# EAGLE library part MCP6054 (library Projekt)
Operationsverstärker Microchip MCP 6052
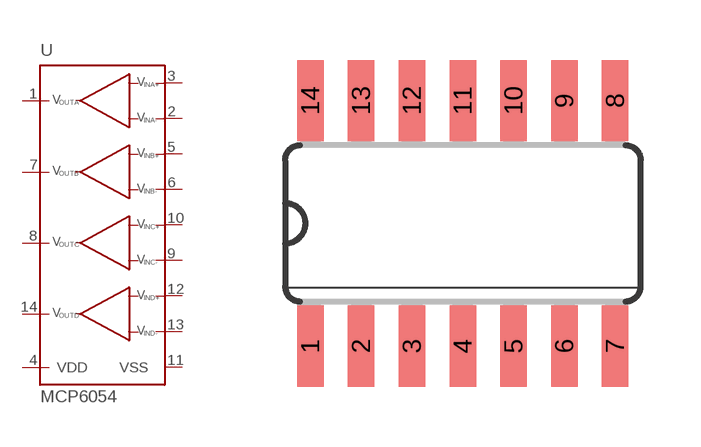
[diagram p23: symbol with the pads of SO14; footprint SO14]

Designator prefix -

## MCP6054SOIC14  [SO14]
1  VOUTA  out
2  VINA-  in
3  VINA+  in
4  VDD  pwr
5  VINB+  in
6  VINB-  in
7  VOUTB  out
8  VOUTC  out
9  VINC-  in
10  VINC+  in
11  VSS  pwr
12  VIND+  in
13  VIND-  in
14  VOUTD  out

## Footprint SO14 (pad centres in mm)
Small Outline package 150 mil
smd 0.66 x 2.032: 1 -3.81,-3.073; 2 -2.54,-3.073; 3 -1.27,-3.073; 4 0,-3.073; 5 1.27,-3.073; 6 2.54,-3.073; 7 3.81,-3.073; 8 3.81,3.073; 9 2.54,3.073; 10 1.27,3.073; 11 0,3.073; 12 -1.27,3.073; 13 -2.54,3.073; 14 -3.81,3.073